# EAGLE library part MICRO_FIT_3.0_6POS_RA (library UBCSolar)
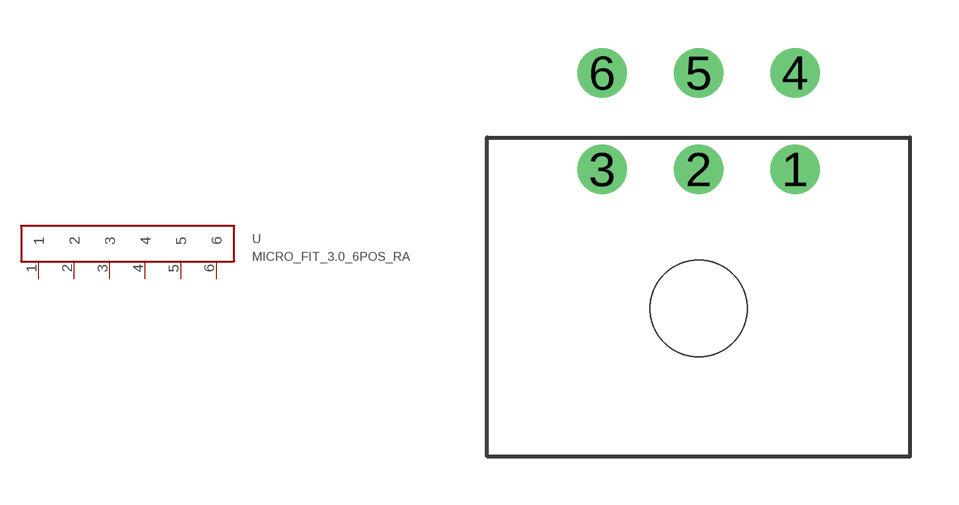
[diagram p2: symbol with the pads of MICRO_FIT_3.0_6POS_RA; footprint MICRO_FIT_3.0_6POS_RA]

Designator prefix -

## MICRO_FIT_3.0_6POS_RA  [MICRO_FIT_3.0_6POS_RA]
1  1
2  2
3  3
4  4
5  5
6  6

## Footprint MICRO_FIT_3.0_6POS_RA (pad centres in mm)
Micro-Fit 3.0 6pos, right angle https://www.digikey.ca/product-detail/en/molex/0430450600/WM1815-ND/252528
drill 1.02: 1 3,0; 2 0,0; 3 -3,0; 4 3,3; 5 0,3; 6 -3,3
hole 3 at 0,-4.32